# EAGLE library part TEN5S (library Zoli2_2015-02-22)
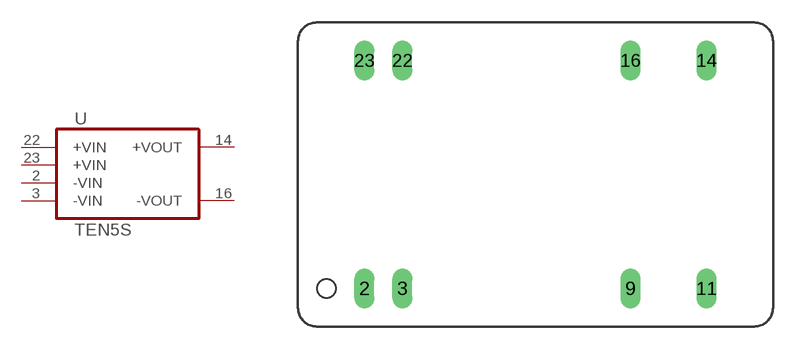
[diagram p54: symbol with the pads of TEN5; footprint TEN5]

Designator prefix -

## TEN5S  [TEN5]
2  -VIN  nc
3  -VIN  nc
14  +VOUT  pwr
16  -VOUT  pwr
22  +VIN  in
23  +VIN  pas

## Footprint TEN5 (pad centres in mm)
drill 0.813 long: 2 -11.43,-7.62; 3 -8.89,-7.62; 9 6.35,-7.62; 11 11.43,-7.62; 14 11.43,7.62; 16 6.35,7.62; 22 -8.89,7.62; 23 -11.43,7.62